# EAGLE library part ADC08100CIMTC (library Elektronik_lib)
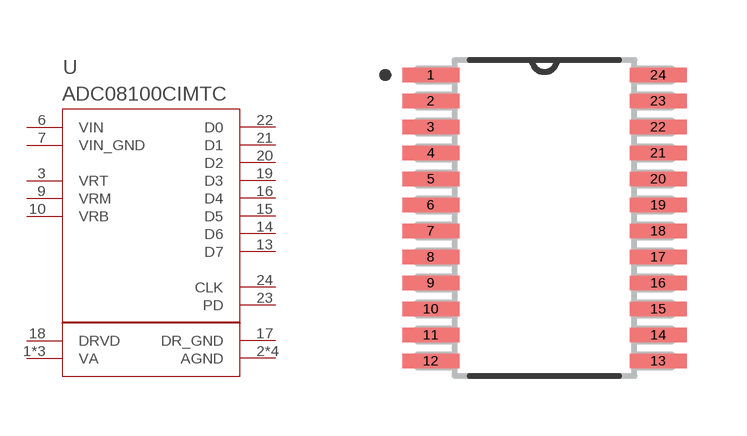
[diagram p6: symbol with the pads of MTC24; footprint MTC24]

Designator prefix U

## ADC08100CIMTCMTC24 (COPYRIGHT: Copyright (C) 2023 Ultra Librarian. All rights reserved.; MANUFACTURER_PART_NUMBER: ADC08100CIMTC; MFR_NAME: Texas Instruments; TYPE: ADC08100CIMTC)  [MTC24]
1  VA  pas
2  AGND  pas
3  VRT  pas
4  VA  pas
5  AGND  pas
6  VIN  in
7  VIN_GND  pas
8  AGND  pas
9  VRM  pas
10  VRB  pas
11  AGND  pas
12  VA  pas
13  D7  out
14  D6  out
15  D5  out
16  D4  out
17  DR_GND  pas
18  DRVD  pas
19  D3  out
20  D2  out
21  D1  out
22  D0  out
23  PD  pas
24  CLK  pas

## Footprint MTC24 (pad centres in mm)
smd 1.422 x 0.356: 1 -2.845,3.575; 2 -2.845,2.925; 3 -2.845,2.275; 4 -2.845,1.625; 5 -2.845,0.975; 6 -2.845,0.325; 7 -2.845,-0.325; 8 -2.845,-0.975; 9 -2.845,-1.625; 10 -2.845,-2.275; 11 -2.845,-2.925; 12 -2.845,-3.575; 13 2.845,-3.575; 14 2.845,-2.925; 15 2.845,-2.275; 16 2.845,-1.625; 17 2.845,-0.975; 18 2.845,-0.325; 19 2.845,0.325; 20 2.845,0.975; 21 2.845,1.625; 22 2.845,2.275; 23 2.845,2.925; 24 2.845,3.575